# EAGLE library part ADNS-5050 (library fieldrec)
The ADNS-5050 is a mainstream, small form factor optical mouse sensor.
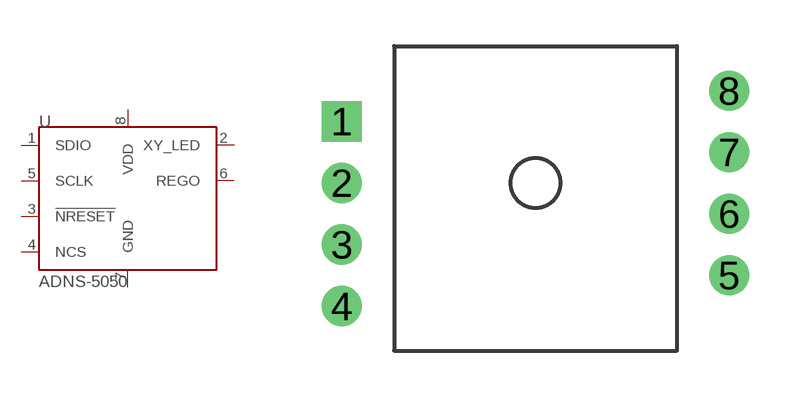
[diagram p6: symbol with the pads of DIP8-1MMSHIFT; footprint DIP8-1MMSHIFT]

Designator prefix -

## ADNS-5050  [DIP8-1MMSHIFT]
1  SDIO
2  XY_LED  out
3  !NRESET  in
4  NCS  in
5  SCLK  in
6  REGO  out
7  GND  pwr
8  VDD  pwr

## Footprint DIP8-1MMSHIFT (pad centres in mm)
drill 0.8 square: 1 -6.3,0
drill 0.8 round: 2 -6.3,-2; 3 -6.3,-4; 4 -6.3,-6; 5 6.3,-5; 6 6.3,-3; 7 6.3,-1; 8 6.3,1